# Altium schematic symbol library Attiny-test.SchLib: 1 symbol
Pins are listed as number, name and electrical type; pins without a type are passive.

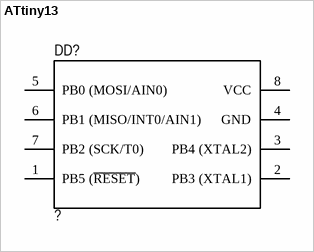
[diagram p0: symbol ATtiny13]

## ATtiny13
designator DD?, comment ?
Value: ATtiny13; Type: SOIC8
footprint 8S2 (8-lead, 0.209" Wide, Plastic Small Outline Package (EIAJ SOIC))
pins: 1 PB5 (~{RESET}), 2 PB3 (XTAL1), 3 PB4 (XTAL2), 4 GND, 5 PB0 (MOSI/AIN0), 6 PB1 (MISO/INT0/AIN1), 7 PB2 (SCK/T0), 8 VCC